# Altium schematic symbol library 89C51.SCHLIB: 39 symbols
Pins are listed as number, name and electrical type; pins without a type are passive.

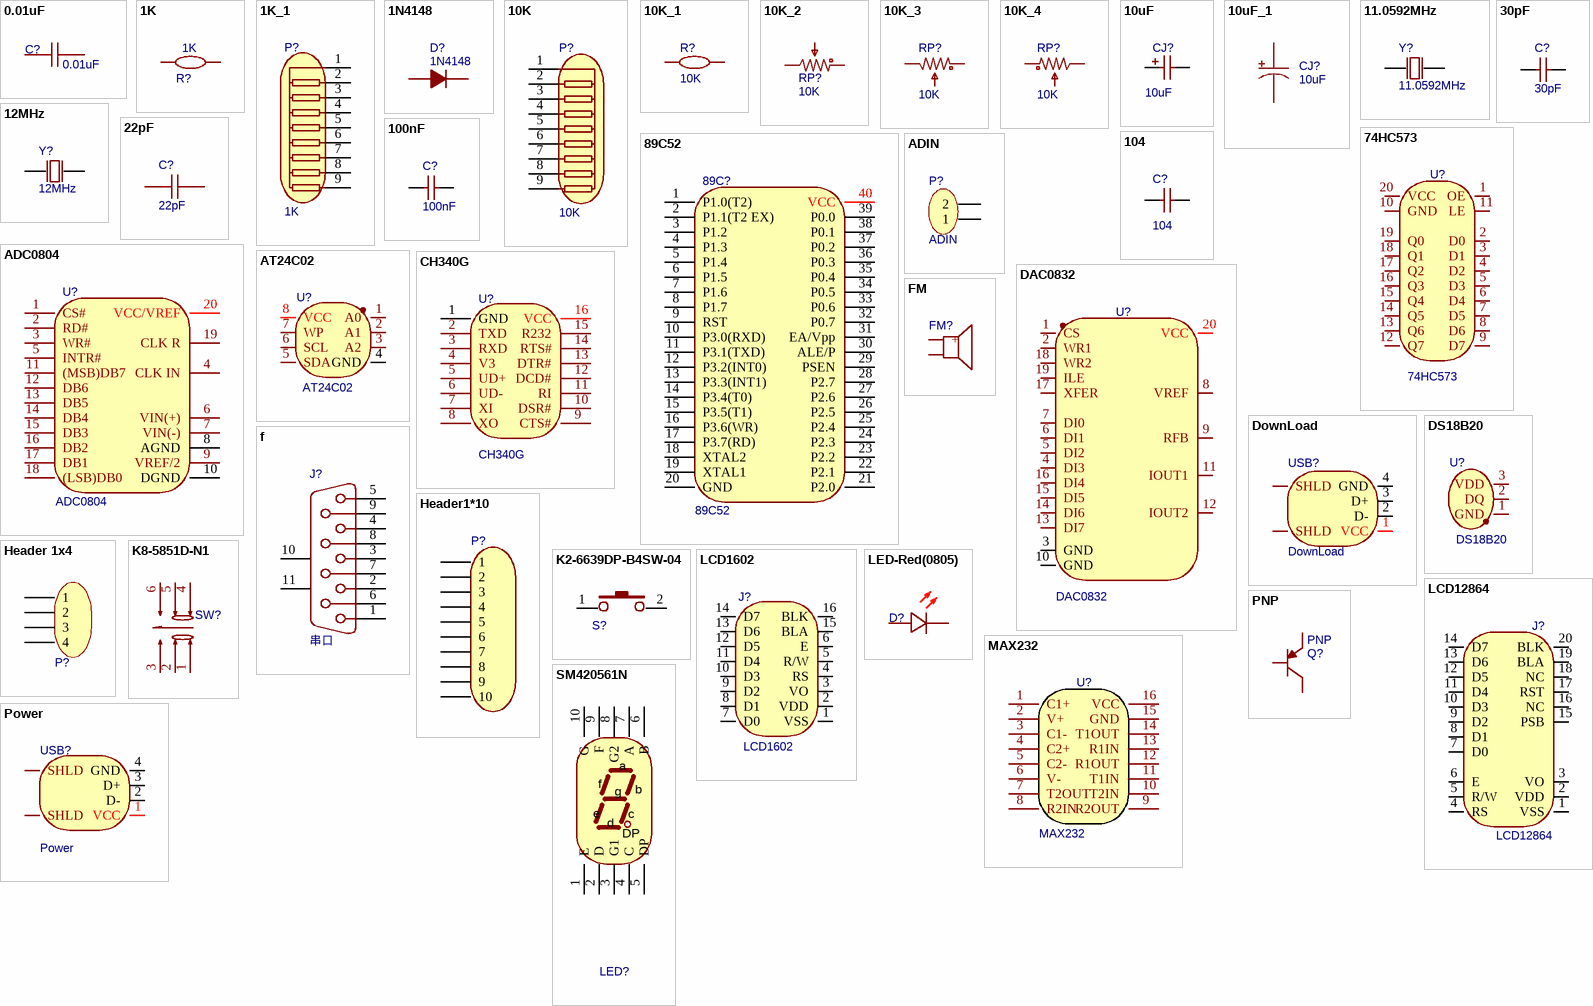
[diagram p0: symbols 0.01uF to SM420561N]

## 0.01uF
designator C?
BOM_Manufacturer: YAGEO; BOM_Manufacturer Part: CC0805KRX7R9BB103; nameAlias: Capacitance; BOM_Supplier: LCSC; BOM_Supplier Part: C83170; spicePre: C; spiceSymbolName: CC0805KRX7R9BB103
footprint 0805
pins: 1, 2

## 1K
designator R?
BOM_Manufacturer: Tyohm; BOM_Manufacturer Part: RMC08051K5%N; nameAlias: Resistance (Ohms); Contributor: LCSC; BOM_Supplier: LCSC; BOM_Supplier Part: C269727; spicePre: R; spiceSymbolName: RMC08051K5%N
footprint 0805
pins: 1, 2

## 1K_1
designator P?, comment 1K
BOM_Manufacturer: FH; BOM_Manufacturer Part: A09-102JP; nameAlias: Resistance (Ohms); Contributor: erhuoyan; BOM_Supplier: LCSC; BOM_Supplier Part: C9111; spicePre: R; spiceSymbolName: 排阻1K
footprint SIP-9
pins: 1, 2, 3, 4, 5, 6, 7, 8, 9

## 1N4148
designator D?
BOM_Manufacturer: STARSEA; BOM_Supplier: LCSC; BOM_Manufacturer Part: 1N4148; BOM_Supplier Part: C85057; spicePre: D
footprint DO-35
pins: 1 A, 2 K

## 10K
designator P?
BOM_Manufacturer: FH; BOM_Manufacturer Part: 10 K 5%; nameAlias: Resistance (Ohms); Contributor: erhuoyan; BOM_Supplier: LCSC; BOM_Supplier Part: C26615; spicePre: R; spiceSymbolName: 10 K 5%排阻
footprint SIP-9
pins: 1, 2, 3, 4, 5, 6, 7, 8, 9

## 10K_1
designator R?, comment 10K
BOM_Manufacturer: Tyohm; BOM_Manufacturer Part: RMC080510K5%N; nameAlias: Resistance (Ohms); Contributor: LCSC; BOM_Supplier: LCSC; BOM_Supplier Part: C269724; spicePre: R; spiceSymbolName: RMC080510K5%N
footprint 0805
pins: 1, 2

## 10K_2
designator RP?, comment 10K
BOM_Manufacturer: Chengdu Guosheng Tech; BOM_Manufacturer Part: 3296W-1-103; nameAlias: Resistance(Ohms); Contributor: LCSC; BOM_Supplier: LCSC; BOM_Supplier Part: C118954; spicePre: R; spiceSymbolName: 3296W-1-103
footprint RES-ADJ-TH_3PIN-V-L9.50-W4.85-PITCH2.50
pins: 1, 2, 3

## 10K_3
designator RP?, comment 10K
BOM_Manufacturer: Chengdu Guosheng Tech; BOM_Manufacturer Part: 3296W-1-103; nameAlias: Resistance(Ohms); Contributor: LCSC; BOM_Supplier: LCSC; BOM_Supplier Part: C118954; spicePre: R; spiceSymbolName: 3296W-1-103
footprint RES-ADJ-TH_3PIN-V-L9.50-W4.85-PITCH2.50
pins: 1, 2, 3

## 10K_4
designator RP?, comment 10K
BOM_Manufacturer: Chengdu Guosheng Tech; BOM_Manufacturer Part: 3296W-1-103; nameAlias: Resistance(Ohms); Contributor: LCSC; BOM_Supplier: LCSC; BOM_Supplier Part: C118954; spicePre: R; spiceSymbolName: 3296W-1-103
footprint RES-ADJ-TH_3PIN-V-L9.50-W4.85-PITCH2.50
pins: 1, 2, 3

## 10uF
designator CJ?
BOM_Manufacturer: AVX; BOM_Manufacturer Part: TAJA106M010RNJ; nameAlias: Capacitance; SMT Type: Extend; BOM_Supplier: LCSC; BOM_Supplier Part: C92127; BOM_LCSC Assembly: Yes; spicePre: C; spiceSymbolName: TAJA106M010RNJ
footprint CAP-CASE-A_3216
pins: 1, 2

## 10uF_1
designator CJ?, comment 10uF
BOM_Manufacturer: AVX; BOM_Manufacturer Part: TPSB106K016R0800; nameAlias: Capacitance; Contributor: LCSC; SMT Type: Extend; BOM_Supplier: LCSC; BOM_Supplier Part: C273667; BOM_LCSC Assembly: Yes; spicePre: C; spiceSymbolName: TPSB106K016R0800
footprint CASE-B_3528
pins: 1, 2

## 11.0592MHz
designator Y?
BOM_Manufacturer: YXC; BOM_Manufacturer Part: X49SD110592MSD2SC; nameAlias: Frequency; BOM_Supplier: LCSC; BOM_Supplier Part: C2203; spicePre: X; spiceSymbolName: X49SD110592MSD2SC
footprint OSC-49S-1
pins: 1 OSC1, 2 OSC2

## 12MHz
designator Y?
BOM_Manufacturer: YXC; BOM_Manufacturer Part: X49SD12MSD2SC; nameAlias: Frequency; BOM_Supplier: LCSC; BOM_Supplier Part: C16369; spicePre: X; spiceSymbolName: X49SD12MSD2SC
footprint OSC-49S-1
pins: 1 OSC1, 2 OSC2

## 22pF
designator C?
BOM_Manufacturer: FH; BOM_Manufacturer Part: 0805CG220J500NT; nameAlias: Capacitance; BOM_Supplier: LCSC; BOM_Supplier Part: C24658; spicePre: C; spiceSymbolName: 0805CG220J500NT
footprint 0805
pins: 1, 2

## 30pF
designator C?
BOM_Manufacturer Part: CL21C300JBANNNC; BOM_Manufacturer: SAMSUNG; nameAlias: Capacitance; SMT Type: Basic; BOM_Supplier: LCSC; BOM_LCSC Assembly: Yes; BOM_Supplier Part: C1809; spicePre: C; spiceSymbolName: CL21C300JBANNNC
footprint 0805
pins: 1, 2

## 74HC573
designator U?
BOM_Manufacturer: Nexperia; BOM_Manufacturer Part: 74HC573D,653; SMT Type: Basic; Contributor: erhuoyan; BOM_Supplier: LCSC; BOM_LCSC Assembly: Yes; image: //image.lceda.cn/szlcsc/C5608.jpg; BOM_Supplier Part: C5608; spicePre: U
footprint SOIC-20_300MIL
pins: 1 OE, 2 D0, 3 D1, 4 D2, 5 D3, 6 D4, 7 D5, 8 D6, 9 D7, 10 GND, 11 LE, 12 Q7, 13 Q6, 14 Q5, 15 Q4, 16 Q3, 17 Q2, 18 Q1, 19 Q0, 20 VCC

## 89C52
designator 89C?
BOM_Manufacturer Part: STC10F08XE; BOM_Manufacturer: STC; Contributor: erhuoyan; BOM_Supplier Part: C19578; BOM_Supplier: LCSC; spicePre: U
footprint 89C51DIP-40
pins: 1 P1.0(T2), 2 P1.1(T2 EX), 3 P1.2, 4 P1.3, 5 P1.4, 6 P1.5, 7 P1.6, 8 P1.7, 9 RST, 10 P3.0(RXD), 11 P3.1(TXD), 12 P3.2(INT0), 13 P3.3(INT1), 14 P3.4(T0), 15 P3.5(T1), 16 P3.6(WR), 17 P3.7(RD), 18 XTAL2, 19 XTAL1, 20 GND, 21 P2.0, 22 P2.1, 23 P2.2, 24 P2.3, 25 P2.4, 26 P2.5, 27 P2.6, 28 P2.7, 29 PSEN, 30 ALE/P, 31 EA/Vpp, 32 P0.7, 33 P0.6, 34 P0.5, 35 P0.4, 36 P0.3, 37 P0.2, 38 P0.1, 39 P0.0, 40 VCC

## 100nF
designator C?
BOM_Manufacturer Part: CC0805KRX7R9BB104; BOM_Manufacturer: YAGEO; nameAlias: Capacitance; SMT Type: Basic; BOM_Supplier: LCSC; BOM_LCSC Assembly: Yes; BOM_Supplier Part: C49678; spicePre: C; spiceSymbolName: CC0805KRX7R9BB104
footprint 0805
pins: 1, 2

## 104
designator C?
BOM_Manufacturer: FH; BOM_Manufacturer Part: 0805B104K500NT; nameAlias: Capacitance; BOM_Supplier: LCSC; BOM_Supplier Part: C38141; spicePre: C; spiceSymbolName: 0805B104K500NT
footprint 0805
pins: 1, 2

## ADC0804
designator U?
BOM_Manufacturer: TI; BOM_Manufacturer Part: ADC0804LCN; Contributor: erhuoyan; spicePre: X; BOM_Supplier: LCSC; image: //image.lceda.cn/szlcsc/C9639.jpg; BOM_Supplier Part: C9639
footprint DIP-20-2.54MM
pins: 1 CS#, 2 RD#, 3 WR#, 4 CLK IN, 5 INTR#, 6 VIN(+), 7 VIN(-), 8 AGND, 9 VREF/2, 10 DGND, 11 (MSB)DB7, 12 DB6, 13 DB5, 14 DB4, 15 DB3, 16 DB2, 17 DB1, 18 (LSB)DB0, 19 CLK R, 20 VCC/VREF

## ADIN
designator P?
BOM_Manufacturer Part: 210-91-02GB01; BOM_Manufacturer: PINREX; Contributor: erhuoyan; BOM_Supplier Part: C390678; BOM_Supplier: LCSC; spicePre: U
footprint HDR-2X1/2.54
pins: 1, 2

## AT24C02
designator U?
BOM_Manufacturer: HGSEMI; BOM_Manufacturer Part: AT24C02M/TR; Contributor: erhuoyan; BOM_Supplier: LCSC; BOM_Supplier Part: C356696; spicePre: U
footprint SOP-8_L5.00-W6.20-PITCH1.27-BL
pins: 1 A0, 2 A1, 3 A2, 4 GND, 5 SDA, 6 SCL, 7 WP, 8 VCC

## CH340G
designator U?
BOM_Manufacturer: WCH; SMT Type: Basic; Contributor: erhuoyan; timeStamp: 1468327462; BOM_Supplier: LCSC; BOM_Manufacturer Part: CH340G; BOM_LCSC Assembly: Yes; image: //image.lceda.cn/szlcsc/C14267.jpg; BOM_Supplier Part: C14267; spicePre: U
footprint SOIC-16_150MIL
pins: 1 GND, 2 TXD, 3 RXD, 4 V3, 5 UD+, 6 UD-, 7 XI, 8 XO, 9 CTS#, 10 DSR#, 11 RI, 12 DCD#, 13 DTR#, 14 RTS#, 15 R232, 16 VCC

## DAC0832
designator U?
BOM_Manufacturer: TI; BOM_Manufacturer Part: DAC0832LCN; Contributor: erhuoyan; spicePre: X; BOM_Supplier: LCSC; image: //image.lceda.cn/szlcsc/C9752.jpg; BOM_Supplier Part: C9752
footprint DIP-20-2.54MM
pins: 1 CS, 2 WR1, 3 GND, 4 DI3, 5 DI2, 6 DI1, 7 DI0, 8 VREF, 9 RFB, 10 GND, 11 IOUT1, 12 IOUT2, 13 DI7, 14 DI6, 15 DI5, 16 DI4, 17 XFER, 18 WR2, 19 ILE, 20 VCC

## DownLoad
designator USB?
BOM_Manufacturer Part: YJ-USB-AF-02-Y-Fe; Contributor: erhuoyan; Package Display: No; BOM_Supplier: LCSC; image: //image.lceda.cn/szlcsc/C2345.jpg; BOM_Supplier Part: C2345; spicePre: U
footprint USB-A-2
pins: 0 SHLD, 0 SHLD, 1 VCC, 2 D-, 3 D+, 4 GND

## DS18B20
designator U?
BOM_Manufacturer: Youtai Semiconductor Co., Ltd.; Contributor: erhuoyan; BOM_Supplier: LCSC; BOM_Supplier Part: C376006; BOM_Manufacturer Part: DS18B20; spicePre: U
footprint TO-92-3_3PIN-L4.70-W3.70-PITCH1.27-T
pins: 1 GND, 2 DQ, 3 VDD

## f
designator J?, comment 串口
BOM_Manufacturer: Shenzhen Cankemeng; BOM_Manufacturer Part: DMR-9S; Contributor: erhuoyan; BOM_Supplier: LCSC; BOM_Supplier Part: C141882; spicePre: D
footprint DMR-9S
pins: 1, 2, 3, 4, 5, 6, 7, 8, 9, 10 MH1, 11 MH2

## FM
designator FM?  (value not drawn)
BOM_Manufacturer: S&S; BOM_Manufacturer Part: SUN-12095-5VPA7.6; Contributor: LCSC; BOM_Supplier: LCSC; BOM_Supplier Part: C360615; spicePre: B
footprint BUZ-TH_2PIN_SUN-12095-5VPA7.6
pins: 1 +, 2

## Header1*10
designator P?  (value not drawn)
BOM_Manufacturer Part: Headers??Pins2.54mm1*10P; Contributor: erhuoyan; BOM_Supplier Part: C57369; BOM_Supplier: LCSC; spicePre: P
footprint HDR-10X1/2.54
pins: 1, 2, 3, 4, 5, 6, 7, 8, 9, 10

## Header 1x4
designator P?  (value not drawn)
BOM_Manufacturer Part: 210S-1*4P L=11.6MMGold-plated black; BOM_Manufacturer: Ckmtw; Contributor: erhuoyan; BOM_Supplier: LCSC; BOM_Supplier Part: C124378; spicePre: P
footprint DIP-1X4P-2.54MM-M
pins: 1, 2, 3, 4

## K2-6639DP-B4SW-04
designator S?  (value not drawn)
BOM_Manufacturer: Rectangular Connectors - Contacts; BOM_Manufacturer Part: K2-1107ST-A4SW-06; Contributor: yiwenyuan37; BOM_Supplier Part: C118141; BOM_Supplier: LCSC; spicePre: S
footprint K2-1107ST-A4SW-06
pins: 1, 2 3

## K8-5851D-N1
designator SW?  (value not drawn)
BOM_Manufacturer: Rectangular Connectors - Contacts; Contributor: LCSC; BOM_Supplier: LCSC; BOM_Supplier Part: C223899; BOM_Manufacturer Part: K8-5851D-N1; spicePre: S
footprint SW-DIP-5.8X5.8X10
pins: 1, 2, 3, 4, 5, 6

## LCD1602
designator J?
BOM_Manufacturer: BOOMELE; BOM_Manufacturer Part: Female header1*16P pitch 2.54mm; Contributor: erhuoyan; BOM_Supplier: LCSC; image: //image.lceda.cn/szlcsc/C66987.jpg; BOM_Supplier Part: C66987; spicePre: P
footprint HDR-16X1/2.54
pins: 1 VSS, 2 VDD, 3 VO, 4 RS, 5 R/W, 6 E, 7 D0, 8 D1, 9 D2, 10 D3, 11 D4, 12 D5, 13 D6, 14 D7, 15 BLA, 16 BLK

## LCD12864
designator J?
BOM_Manufacturer: BOOMELE; BOM_Manufacturer Part: 2.54mm 1*20P Female header; Contributor: erhuoyan; BOM_Supplier: LCSC; BOM_Supplier Part: C50984; spicePre: P
footprint HDR-20X1/2.54
pins: 1 VSS, 2 VDD, 3 VO, 4 RS, 5 R/W, 6 E, 7 D0, 8 D1, 9 D2, 10 D3, 11 D4, 12 D5, 13 D6, 14 D7, 15 PSB, 16 NC, 17 RST, 18 NC, 19 BLA, 20 BLK

## LED-Red(0805)
designator D?  (value not drawn)
BOM_Manufacturer: Everlight Elec; BOM_Manufacturer Part: 17-21SURC/S530-A2/TR8; BOM_Supplier: LCSC; BOM_Supplier Part: C131244; spicePre: L
footprint LED-0805
pins: 1 +, 2 -

## MAX232
designator U?
BOM_Manufacturer: MAXIM; BOM_Manufacturer Part: MAX232CSE+T; SMT Type: Extend; Contributor: erhuoyan; BOM_Supplier: LCSC; BOM_Supplier Part: C45119; BOM_LCSC Assembly: Yes; spicePre: U
footprint SOIC-16_150MIL
pins: 1 C1+, 2 V+, 3 C1-, 4 C2+, 5 C2-, 6 V-, 7 T2OUT, 8 R2IN, 9 R2OUT, 10 T2IN, 11 T1IN, 12 R1OUT, 13 R1IN, 14 T1OUT, 15 GND, 16 VCC

## PNP
designator Q?
BOM_Manufacturer: Hottech; BOM_Manufacturer Part: S8550; Contributor: LCSC; SMT Type: Extend; BOM_Supplier: LCSC; BOM_Supplier Part: C181159; BOM_LCSC Assembly: Yes; spicePre: Q
footprint SOT-23(SOT-23-3)
pins: 1 B, 2 E, 3 C

## Power
designator USB?
BOM_Manufacturer Part: YJ-USB-AF-02-Y-Fe; Contributor: erhuoyan; Package Display: No; BOM_Supplier: LCSC; image: //image.lceda.cn/szlcsc/C2345.jpg; BOM_Supplier Part: C2345; spicePre: U
footprint USB-A-2
pins: 0 SHLD, 0 SHLD, 1 VCC, 2 D-, 3 D+, 4 GND

## SM420561N
designator LED?  (value not drawn)
BOM_Manufacturer: ARKLED; Contributor: erhuoyan; BOM_Supplier: LCSC; BOM_Manufacturer Part: SM420561N; BOM_Supplier Part: C141367; spicePre: L
footprint LEDSEG_1_0.56_CATHODE
pins: 1 E, 2 D, 3 G1, 4 C, 5 DP, 6 B, 7 A, 8 G2, 9 F, 10 G
text: a; f; g; b; e; c; d